# Altium schematic symbol library resistance.SchLib: 1 symbol
Pins are listed as number, name and electrical type; pins without a type are passive.

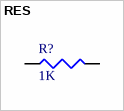
[diagram p0: symbol RES]

## RES
designator R?  value 1K
resistance
footprint 1206
footprint 0805
footprint 0603
footprint AXIAL0.3
simulation model RESISTOR (Model Description)
footprint AXIAL0.4
footprint AXIAL0.5
footprint AXIAL0.6
footprint AXIAL0.7
footprint AXIAL0.8
footprint AXIAL0.9
footprint AXIAL1.0
footprint 0402
footprint 0402_shrink
footprint 0603_shrink
footprint 0201
footprint axial0.4-H316101
pins: 1, 2